# Altium schematic symbol library PICO_sch.SchLib: 2 symbols
Pins are listed as number, name and electrical type; pins without a type are passive.

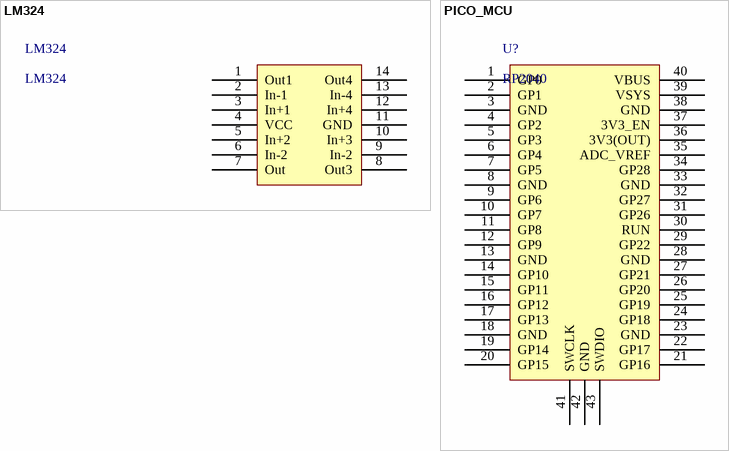
[diagram p0: symbols LM324 to PICO_MCU]

## LM324
designator LM324
footprint LM324
pins: 1 Out1, 2 In-1, 3 In+1, 4 VCC, 5 In+2, 6 In-2, 7 Out, 8 Out3, 9 In-2, 10 In+3, 11 GND, 12 In+4, 13 In-4, 14 Out4

## PICO_MCU
designator U?, comment RP2040
footprint PCBComponent_1
pins: 1 GP0, 2 GP1, 3 GND, 4 GP2, 5 GP3, 6 GP4, 7 GP5, 8 GND, 9 GP6, 10 GP7, 11 GP8, 12 GP9, 13 GND, 14 GP10, 15 GP11, 16 GP12, 17 GP13, 18 GND, 19 GP14, 20 GP15, 21 GP16, 22 GP17, 23 GND, 24 GP18, 25 GP19, 26 GP20, 27 GP21, 28 GND, 29 GP22, 30 RUN, 31 GP26, 32 GP27, 33 GND, 34 GP28, 35 ADC_VREF, 36 3V3(OUT), 37 3V3_EN, 38 GND, 39 VSYS, 40 VBUS, 41 SWCLK, 42 GND, 43 SWDIO